# Altium schematic symbol library SCH - POWER - LINEAR VREG - TI LP2951ACMM.SchLib: 1 symbol
Pins are listed as number, name and electrical type; pins without a type are passive.

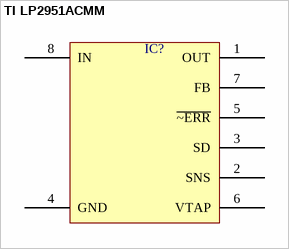
[diagram p0: symbol TI LP2951ACMM]

## TI LP2951ACMM
designator IC?  (value not drawn)
pins: 1 OUT, 2 SNS, 3 SD, 4 GND, 5 ~{~ERR}, 6 VTAP, 7 FB, 8 IN